# EAGLE library part 1473006-4 (library SamacSys_Parts)
SEMI-HARD TRAY DDR2 SODIMM SOCKET 200P 5 Source: Datasheet <https://www.te.com/commerce/DocumentDelivery/DDEController?Action=showdoc&DocId=Customer Drawing1473006M2pdfEnglishENG_CD_1473006_M2.pdf1473006-4>
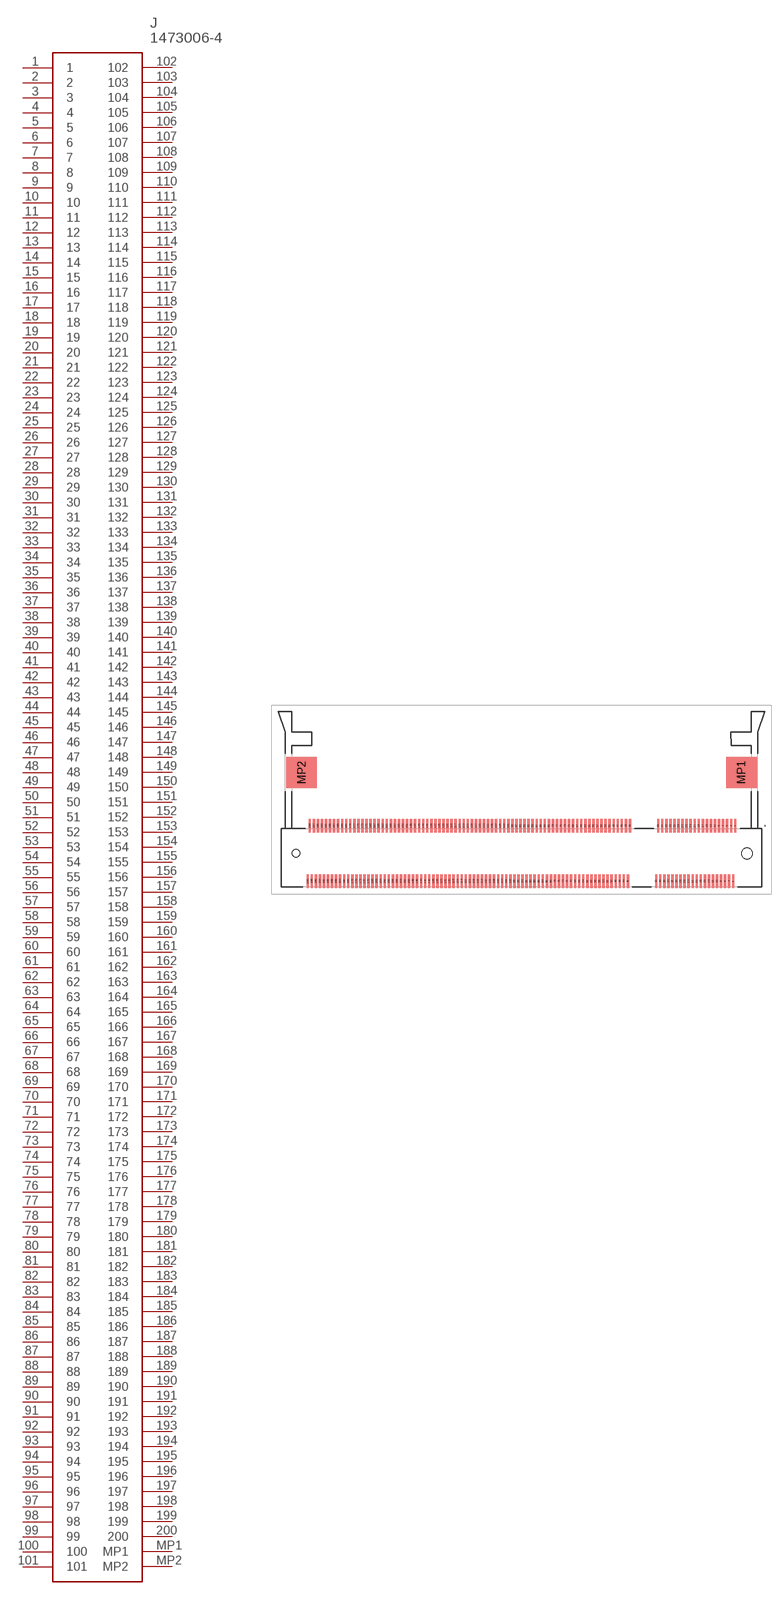
[diagram p72: symbol with the pads of 14730064; footprint 14730064]

Designator prefix J

## 1473006-4 (DESCRIPTION: SEMI-HARD TRAY DDR2 SODIMM SOCKET 200P 5; HEIGHT: 5.4mm; MANUFACTURER_NAME: TE Connectivity; MANUFACTURER_PART_NUMBER: 1473006-4; MOUSER_PART_NUMBER: 571-1473006-4; MOUSER_PRICE-STOCK: https://www.mouser.com/Search/Refine.aspx?Keyword=571-1473006-4)  [14730064]
1  1
2  2
3  3
4  4
5  5
6  6
7  7
8  8
9  9
10  10
11  11
12  12
13  13
14  14
15  15
16  16
17  17
18  18
19  19
20  20
21  21
22  22
23  23
24  24
25  25
26  26
27  27
28  28
29  29
30  30
31  31
32  32
33  33
34  34
35  35
36  36
37  37
38  38
39  39
40  40
41  41
42  42
43  43
44  44
45  45
46  46
47  47
48  48
49  49
50  50
51  51
52  52
53  53
54  54
55  55
56  56
57  57
58  58
59  59
60  60
61  61
62  62
63  63
64  64
65  65
66  66
67  67
68  68
69  69
70  70
71  71
72  72
73  73
74  74
75  75
76  76
77  77
78  78
79  79
80  80
81  81
82  82
83  83
84  84
85  85
86  86
87  87
88  88
89  89
90  90
91  91
92  92
93  93
94  94
95  95
96  96
97  97
98  98
99  99
100  100
101  101
102  102
103  103
104  104
105  105
106  106
107  107
108  108
109  109
110  110
111  111
112  112
113  113
114  114
115  115
116  116
117  117
118  118
119  119
120  120
121  121
122  122
123  123
124  124
125  125
126  126
127  127
128  128
129  129
130  130
131  131
132  132
133  133
134  134
135  135
136  136
137  137
138  138
139  139
140  140
141  141
142  142
143  143
144  144
145  145
146  146
147  147
148  148
149  149
150  150
151  151
152  152
153  153
154  154
155  155
156  156
157  157
158  158
159  159
160  160
161  161
162  162
163  163
164  164
165  165
166  166
167  167
168  168
169  169
170  170
171  171
172  172
173  173
174  174
175  175
176  176
177  177
178  178
179  179
180  180
181  181
182  182
183  183
184  184
185  185
186  186
187  187
188  188
189  189
190  190
191  191
192  192
193  193
194  194
195  195
196  196
197  197
198  198
199  199
200  200
MP1  MP1
MP2  MP2

## Footprint 14730064 (pad centres in mm)
1473006-4-3
smd 0.35 x 2: 1 31.65,4.75; 2 31.35,-3.45; 3 31.05,4.75; 4 30.75,-3.45; 5 30.45,4.75; 6 30.15,-3.45; 7 29.85,4.75; 8 29.55,-3.45; 9 29.25,4.75; 10 28.95,-3.45; 11 28.65,4.75; 12 28.35,-3.45; 13 28.05,4.75; 14 27.75,-3.45; 15 27.45,4.75; 16 27.15,-3.45; 17 26.85,4.75; 18 26.55,-3.45; 19 26.25,4.75; 20 25.95,-3.45; 21 25.65,4.75; 22 25.35,-3.45; 23 25.05,4.75; 24 24.75,-3.45; 25 24.45,4.75; 26 24.15,-3.45; 27 23.85,4.75; 28 23.55,-3.45; 29 23.25,4.75; 30 22.95,-3.45; 31 22.65,4.75; 32 22.35,-3.45; 33 22.05,4.75; 34 21.75,-3.45; 35 21.45,4.75; 36 21.15,-3.45; 37 20.85,4.75; 38 20.55,-3.45; 39 20.25,4.75; 40 19.95,-3.45; 41 16.05,4.75; 42 15.75,-3.45; 43 15.45,4.75; 44 15.15,-3.45; 45 14.85,4.75; 46 14.55,-3.45; 47 14.25,4.75; 48 13.95,-3.45; 49 13.65,4.75; 50 13.35,-3.45; 51 13.05,4.75; 52 12.75,-3.45; 53 12.45,4.75; 54 12.15,-3.45; 55 11.85,4.75; 56 11.55,-3.45; 57 11.25,4.75; 58 10.95,-3.45; 59 10.65,4.75; 60 10.35,-3.45; 61 10.05,4.75; 62 9.75,-3.45; 63 9.45,4.75; 64 9.15,-3.45; 65 8.85,4.75; 66 8.55,-3.45; 67 8.25,4.75; 68 7.95,-3.45; 69 7.65,4.75; 70 7.35,-3.45; 71 7.05,4.75; 72 6.75,-3.45; 73 6.45,4.75; 74 6.15,-3.45; 75 5.85,4.75; 76 5.55,-3.45; 77 5.25,4.75; 78 4.95,-3.45; 79 4.65,4.75; 80 4.35,-3.45; 81 4.05,4.75; 82 3.75,-3.45; 83 3.45,4.75; 84 3.15,-3.45; 85 2.85,4.75; 86 2.55,-3.45; 87 2.25,4.75; 88 1.95,-3.45; 89 1.65,4.75; 90 1.35,-3.45; 91 1.05,4.75; 92 0.75,-3.45; 93 0.45,4.75; 94 0.15,-3.45; 95 -0.15,4.75; 96 -0.45,-3.45; 97 -0.75,4.75; 98 -1.05,-3.45; 99 -1.35,4.75; 100 -1.65,-3.45; 101 -1.95,4.75; 102 -2.25,-3.45; 103 -2.55,4.75; 104 -2.85,-3.45; 105 -3.15,4.75; 106 -3.45,-3.45; 107 -3.75,4.75; 108 -4.05,-3.45; 109 -4.35,4.75; 110 -4.65,-3.45; 111 -4.95,4.75; 112 -5.25,-3.45; 113 -5.55,4.75; 114 -5.85,-3.45; 115 -6.15,4.75; 116 -6.45,-3.45; 117 -6.75,4.75; 118 -7.05,-3.45; 119 -7.35,4.75; 120 -7.65,-3.45; 121 -7.95,4.75; 122 -8.25,-3.45; 123 -8.55,4.75; 124 -8.85,-3.45; 125 -9.15,4.75; 126 -9.45,-3.45; 127 -9.75,4.75; 128 -10.05,-3.45; 129 -10.35,4.75; 130 -10.65,-3.45; 131 -10.95,4.75; 132 -11.25,-3.45; 133 -11.55,4.75; 134 -11.85,-3.45; 135 -12.15,4.75; 136 -12.45,-3.45; 137 -12.75,4.75; 138 -13.05,-3.45; 139 -13.35,4.75; 140 -13.65,-3.45; 141 -13.95,4.75; 142 -14.25,-3.45; 143 -14.55,4.75; 144 -14.85,-3.45; 145 -15.15,4.75; 146 -15.45,-3.45; 147 -15.75,4.75; 148 -16.05,-3.45; 149 -16.35,4.75; 150 -16.65,-3.45; 151 -16.95,4.75; 152 -17.25,-3.45; 153 -17.55,4.75; 154 -17.85,-3.45; 155 -18.15,4.75; 156 -18.45,-3.45; 157 -18.75,4.75; 158 -19.05,-3.45; 159 -19.35,4.75; 160 -19.65,-3.45; 161 -19.95,4.75; 162 -20.25,-3.45; 163 -20.55,4.75; 164 -20.85,-3.45; 165 -21.15,4.75; 166 -21.45,-3.45; 167 -21.75,4.75; 168 -22.05,-3.45; 169 -22.35,4.75; 170 -22.65,-3.45; 171 -22.95,4.75; 172 -23.25,-3.45; 173 -23.55,4.75; 174 -23.85,-3.45; 175 -24.15,4.75; 176 -24.45,-3.45; 177 -24.75,4.75; 178 -25.05,-3.45; 179 -25.35,4.75; 180 -25.65,-3.45; 181 -25.95,4.75; 182 -26.25,-3.45; 183 -26.55,4.75; 184 -26.85,-3.45; 185 -27.15,4.75; 186 -27.45,-3.45; 187 -27.75,4.75; 188 -28.05,-3.45; 189 -28.35,4.75; 190 -28.65,-3.45; 191 -28.95,4.75; 192 -29.25,-3.45; 193 -29.55,4.75; 194 -29.85,-3.45; 195 -30.15,4.75; 196 -30.45,-3.45; 197 -30.75,4.75; 198 -31.05,-3.45; 199 -31.35,4.75; 200 -31.65,-3.45
smd 4.5 x 4.6: MP1 32.55,12.65; MP2 -32.55,12.65
hole 1.6 at 33.4,0.65
hole 1.1 at -33.4,0.65